# Altium footprint library OSSI.PCBLIB: 194 footprints (part 10 of 13)
Each footprint in its own frame and in the unit in brackets; x right, y up, seen from the top. Pads: shape width x height; smd on the part's side, far side on the other; paste and mask are expansions set on the pad; w line width, h text height; cw(c..) or ccw(c..) is an arc to the next point about the centre after c.
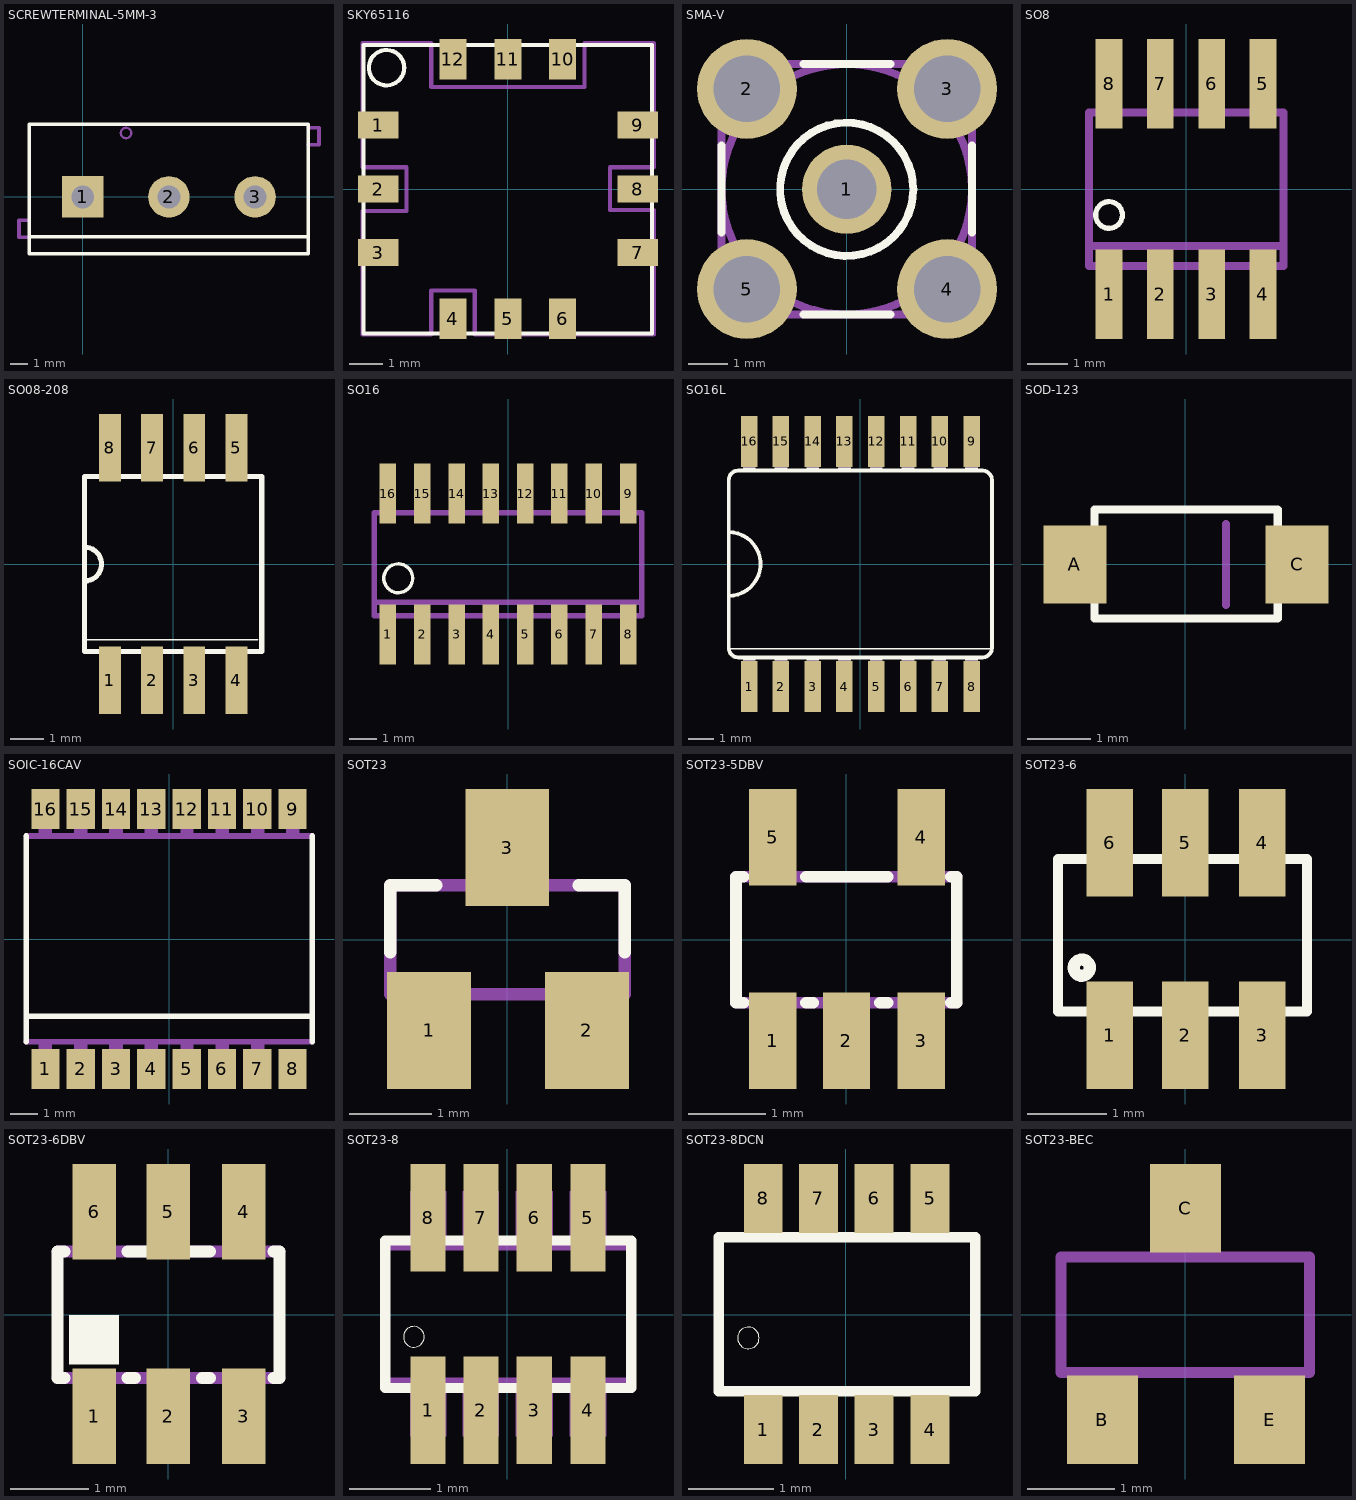
[diagram p9: the footprints below, top view; thin cyan lines are the x and y axes]

## SCREWTERMINAL-5MM-3 [mil]
pads (3):
  rect 95x95 hole 52: 1(0,0)
  round 95 hole 52: 2(197,0) 3(394,0)
Top Overlay:
  lines w8: -122.05,-90.55 -122.05,-129.92 516,-129.92 516,-90.55 ; -122.05,-90.55 -122.05,166 516,166 516,-90.55 ; -122.05,-90.55 516,-90.55
Mechanical 2:
  text ">NAME" at -50,100 h24.8
Mechanical 4:
  text ">VALUE" at -50,50 h24.8
Mechanical 16:
  circle w5: c99,146 r12
  lines w8: -122.05,-92.52 -145.67,-92.52 -145.67,-53.15 -122.05,-53.15 ; 516,119 540,119 540,158 516,158

## SKY65116 [mil]
pads (12):
  rect 48x32 smd: 1(-153.54,76) 2(-153.54,0) 3(-153.54,-75.2) 7(154,-75.2) 8(154,0) 9(154,76)
  rect 32x48 smd: 4(-64.96,-153.54) 5(0,-153.54) 6(65,-153.54) 10(65,154) 11(0,154) 12(-64.96,154)
Top Overlay:
  circle w5: c-143.72,144 r21
  lines w5: -170.96,-170.96 171,-170.96 171,171 -170.96,171 -170.96,-170.96
Mechanical 2:
  text ">NAME" at -150,250 h77.5
Mechanical 4:
  text ">VALUE" at -150,200 h77.5
Mechanical 16:
  lines w5: -172.24,-172.24 -90.75,-172.24 -90.75,-120.08 -39.17,-120.08 -39.17,-172.24 173,-172.24 173,-24.61 121,-24.61 121,26 173,26 173,173 91,173 91,121 -90.75,121 -90.75,173 -172.24,173 -172.24,26 -120.08,26 -120.08,-25.79 -172.24,-25.79 -172.24,-172.24

## SMA-V [mil]
pads (5):
  round 90 hole 60: 1(0,0)
  round 100.5 hole 67: 2(-100.39,101) 3(101,101) 4(101,-100.39) 5(-100.39,-100.39)
Top Overlay:
  circle w8: c0,0 r67
  lines w8: -125.98,-43.31 -125.98,44 ; -43.31,-125.98 44,-125.98 ; -43.31,126 44,126 ; 126,-43.31 126,44
Mechanical 2:
  text ">NAME" at -100,175 h77.5
Mechanical 4:
  text ">VALUE" at -125,-225 h77.5
Mechanical 16:
  circle w8: c0,0 r126
  lines w8: -125.98,-125.98 126,-125.98 126,126 -125.98,126 -125.98,-125.98

## SO8 [mil]
pads (8):
  rect 26x87 smd: 1(-75,-102.36) 2(-25,-102.36) 3(25,-102.36) 4(75,-102.36) 5(75,103) 6(25,103) 7(-25,103) 8(-75,103)
Top Overlay:
  circle w5: c-75,-25 r13
Mechanical 2:
  text ">NAME" at -125,-75 h77.5
Mechanical 4:
  text ">VALUE" at 163,-87.5 h77.5
Mechanical 16:
  rectangle: -84.65,-122.05 -65.35,-78.74
  rectangle: -34.65,-122.05 -15.35,-78.74
  rectangle: 16,-122.05 35,-78.74
  rectangle: 66,-122.05 85,-78.74
  rectangle: 66,79 85,123
  rectangle: 16,79 35,123
  rectangle: -34.65,79 -15.35,123
  rectangle: -84.65,79 -65.35,123
  lines w8: -94.49,-55.12 -94.49,-74.8 95,-74.8 95,-55.12 ; -94.49,-55.12 -94.49,75 95,75 95,-55.12 ; -94.49,-55.12 95,-55.12

## SO08-208 [mil]
pads (8):
  rect 26x80 smd: 1(-75,-137.73) 2(-25,-137.73) 3(25,-137.73) 4(75,-137.73) 5(75,138) 6(25,138) 7(-25,138) 8(-75,138)
Top Overlay:
  lines w2: -104.92,-89.57 100,-89.57
  lines w6: -104.92,-20 -104.92,20 ; -104.92,-20 -104.92,-103.57 105,-103.57 105,104 -104.92,104 -104.92,20 ; -104.92,-20 ccw(c-104.92,0) -104.92,20
Mechanical 2:
  text ">NAME" at -125,-100 h77.5
Mechanical 4:
  text ">VALUE" at 175,-100 h77.5
Mechanical 16:
  rectangle: 65,104 85,159
  rectangle: -85,-158.46 -65,-103.57
  rectangle: -35,-158.46 -15,-103.57
  rectangle: 15,-158.46 35,-102.57
  rectangle: 65,-158.46 85,-103.57
  rectangle: 15,104 35,159
  rectangle: -35,104 -15,159
  rectangle: -85,104 -65,159

## SO16 [mil]
pads (16):
  rect 24x87 smd: 1(-175,-102.36) 2(-125,-102.36) 3(-75,-102.36) 4(-25,-102.36) 5(25,-102.36) 6(75,-102.36) 7(125,-102.36) 8(175,-102.36) 9(175,103) 10(125,103) 11(75,103) 12(25,103) 13(-25,103) 14(-75,103) 15(-125,103) 16(-175,103)
Top Overlay:
  circle w5: c-159.84,-20.47 r21
Mechanical 2:
  text ">NAME" at -200,-75 h77.5
Mechanical 4:
  text ">VALUE" at 250,-100 h77.5
Mechanical 16:
  rectangle: -184.65,-122.05 -165.35,-78.74
  rectangle: -134.65,-122.05 -115.35,-78.74
  rectangle: -84.65,-122.05 -65.35,-78.74
  rectangle: -34.65,-122.05 -15.35,-78.74
  rectangle: 66,79 85,123
  rectangle: 16,79 35,123
  rectangle: -34.65,79 -15.35,123
  rectangle: -84.65,79 -65.35,123
  rectangle: 16,-122.05 35,-78.74
  rectangle: 66,-122.05 85,-78.74
  rectangle: 116,-122.05 135,-78.74
  rectangle: 166,-122.05 185,-78.74
  rectangle: 166,79 185,123
  rectangle: 116,79 135,123
  rectangle: -134.65,79 -115.35,123
  rectangle: -184.65,79 -165.35,123
  lines w8: -194.49,-55.12 -194.49,-74.8 195,-74.8 195,-55.12 ; -194.49,-55.12 -194.49,75 195,75 195,-55.12 ; -194.49,-55.12 195,-55.12

## SO16L [mil]
pads (16):
  rect 26x80 smd: 1(-175,-193) 2(-125,-193) 3(-75,-193) 4(-25,-193) 5(25,-193) 6(75,-193) 7(125,-193) 8(175,-193) 9(175,193) 10(125,193) 11(75,193) 12(25,193) 13(-25,193) 14(-75,193) 15(-125,193) 16(-175,193)
Top Overlay:
  rectangle: -185,-152 -165,-147
  rectangle: -135,-152 -115,-147
  rectangle: -85,-152 -65,-147
  rectangle: -35,-152 -15,-147
  rectangle: 15,-152 35,-147
  rectangle: 65,-152 85,-147
  rectangle: 115,-152 135,-147
  rectangle: 165,-152 185,-147
  rectangle: -185,147 -165,152
  rectangle: -135,147 -115,152
  rectangle: -85,147 -65,152
  rectangle: -35,147 -15,152
  rectangle: 15,147 35,152
  rectangle: 65,147 85,152
  rectangle: 115,147 135,152
  rectangle: 165,147 185,152
  lines w2: -205,-133 206,-133
  lines w6: -207,-50 -207,50 ; -207,-50 -207,-132 ccw(c-192,-132) -192,-147 192,-147 ccw(c192,-132) 207,-132 207,132 ccw(c192,132) 192,147 -192,147 ccw(c-192,132) -207,132 -207,50 ; -207,-50 ccw(c-207,0) -207,50
Mechanical 2:
  text ">NAME" at -220,-140 h77.5
Mechanical 4:
  text ">VALUE" at -140,-30 h77.5
Mechanical 16:
  rectangle: -185,-210 -165,-152
  rectangle: -135,-210 -115,-152
  rectangle: -85,-210 -65,-152
  rectangle: -35,-210 -15,-152
  rectangle: 15,-210 35,-152
  rectangle: 65,-210 85,-152
  rectangle: 115,-210 135,-152
  rectangle: 165,-210 185,-152
  rectangle: -185,152 -165,210
  rectangle: -135,152 -115,210
  rectangle: -85,152 -65,210
  rectangle: -35,152 -15,210
  rectangle: 15,152 35,210
  rectangle: 65,152 85,210
  rectangle: 115,152 135,210
  rectangle: 165,152 185,210

## SOD-123 [mil]
pads (2):
  rect 39x48 smd: A(-68.31,0) C(69,0)
Top Overlay:
  lines w5: -56.1,-33.46 57,-33.46 57,34 -56.1,34 -56.1,-33.46
Mechanical 2:
  text ">NAME" at -125,50 h77.5
Mechanical 4:
  lines w5: 25,-25 25,25
  text ">VALUE" at -125,-100 h77.5

## SOIC-16CAV [mil]
pads (16):
  rect 40x57 smd: 1(-175,-183.86) 2(-125,-183.86) 3(-75,-183.86) 4(-25,-183.86) 5(25,-183.86) 6(75,-183.86) 7(125,-183.86) 8(175,-183.86) 9(175,184) 10(125,184) 11(75,184) 12(25,184) 13(-25,184) 14(-75,184) 15(-125,184) 16(-175,184)
Top Overlay:
  lines w8: -202.36,-145.67 -202.36,-109.25 ; -202.36,146 -202.36,-109.25 ; 203,-145.67 203,-109.25 ; 203,146 203,-109.25 ; -202.36,-109.25 203,-109.25
Mechanical 2:
  text ">NAME" at -225,-125 h77.5
Mechanical 4:
  text ">VALUE" at -175,-25 h77.5
Mechanical 16:
  rectangle: -184.65,-207.68 -165.35,-149.61
  rectangle: -134.65,-207.68 -115.35,-149.61
  rectangle: -84.65,-207.68 -65.35,-149.61
  rectangle: -34.65,-207.68 -15.35,-149.61
  rectangle: 66,150 85,209
  rectangle: 16,150 35,209
  rectangle: -34.65,150 -15.35,209
  rectangle: -84.65,150 -65.35,209
  rectangle: 16,-207.68 35,-149.61
  rectangle: 66,-207.68 85,-149.61
  rectangle: 116,-207.68 135,-149.61
  rectangle: 166,-207.68 185,-164.37
  rectangle: 166,150 185,209
  rectangle: 116,150 135,209
  rectangle: -134.65,150 -115.35,209
  rectangle: -184.65,150 -165.35,209
  lines w8: -202.36,-145.67 203,-145.67 ; -202.36,146 203,146

## SOT23 [mil]
pads (3):
  rect 40x56 smd: 1(-37.4,-43.31) 2(38,-43.31) 3(0,44)
Top Overlay:
  lines w6: -56,-6 -56,26 -34,26 ; 34,26 56,26 56,-6
Mechanical 2:
  text ">NAME" at -75,75 h77.5
Mechanical 4:
  text ">VALUE" at -75,-125 h77.5
Mechanical 16:
  rectangle: -9,28 9,51
  rectangle: 28,-51 46,-28
  rectangle: -46,-51 -28,-28
  lines w6: -56,-26 56,-26 56,26 -56,26 -56,-26

## SOT23-5DBV [mil]
pads (5):
  rect 24x49 smd: 1(-37.4,-51.18) 2(0,-51.18) 3(38,-51.18) 4(38,52) 5(-37.4,52)
Top Overlay:
  lines w6: -52.28,-31.89 -55.98,-31.89 -55.98,32 -52.28,32 ; -20.55,-31.89 -16.85,-31.89 ; -20.55,32 21,32 ; 17,-31.89 21,-31.89 ; 53,-31.89 56,-31.89 56,32 53,32
Mechanical 2:
  text ">NAME" at -75,75 h77.5
Mechanical 4:
  text ">VALUE" at -75,-135 h77.5
Mechanical 16:
  rectangle: -47.24,-59.06 -27.56,-33.46
  rectangle: -9.84,-59.06 10,-33.46
  rectangle: 28,-59.06 48,-33.46
  rectangle: 28,34 48,60
  rectangle: -47.24,34 -27.56,60
  lines w6: -55.98,-31.89 56,-31.89 ; -55.98,32 56,32

## SOT23-6 [mil]
pads (6):
  rect 23x53 smd: 1(-37.4,-47.24) 2(0,-47.24) 3(38,-47.24) 4(38,48) 5(0,48) 6(-37.4,48)
Top Overlay:
  circle w6: c-51.18,-13.78 r4
  lines w5: -62.99,-35.43 60,-35.43 60,40 -62.99,40 -62.99,-35.43
Mechanical 2:
  text ">NAME" at -75,75 h77.5
Mechanical 4:
  text ">VALUE" at -75,-125 h77.5

## SOT23-6DBV [mil]
pads (6):
  rect 22x48 smd: 1(-37.4,-51.18) 2(0,-51.18) 3(38,-51.18) 4(38,52) 5(0,52) 6(-37.4,52)
Top Overlay:
  rectangle: -50,-25 -25,0
  lines w6: -52.28,-31.89 -55.98,-31.89 -55.98,32 -52.28,32 ; -20.55,-31.89 -16.85,-31.89 ; -20.55,32 21,32 ; 17,-31.89 21,-31.89 ; 53,-31.89 56,-31.89 56,32 53,32
Mechanical 2:
  text ">NAME" at -75,75 h77.5
Mechanical 4:
  text ">VALUE" at -75,-135 h77.5
Mechanical 16:
  rectangle: -47.24,-59.06 -27.56,-33.46
  rectangle: -9.84,-59.06 10,-33.46
  rectangle: 28,-59.06 48,-33.46
  rectangle: 28,34 48,60
  rectangle: -47.24,34 -27.56,60
  rectangle: -9.84,34 10,60
  lines w6: -55.98,-31.89 56,-31.89 ; -55.98,32 56,32

## SOT23-8 [mil]
pads (8):
  rect 17x52 smd: 1(-38.39,-46.26) 2(-12.8,-46.26) 3(13,-46.26) 4(39,-46.26) 5(39,47) 6(13,47) 7(-12.8,47) 8(-38.39,47)
Top Overlay:
  circle w0: c-45.28,-10.67 r5
  lines w5: -59.06,-35.43 60,-35.43 60,36 -59.06,36 -59.06,-35.43
Mechanical 2:
  text ">NAME" at -75,-75 h77.5
Mechanical 4:
  text ">VALUE" at 125,-75 h77.5
Mechanical 16:
  rectangle: -47.24,-59.06 -29.53,-33.46
  rectangle: -21.65,-59.06 -3.94,-33.46
  rectangle: 4,-59.06 22,-33.46
  rectangle: 30,-59.06 48,-33.46
  region: 48,60 30,60 30,34 48,34
  region: 22,60 4,60 4,34 22,34
  region: -3.94,60 -21.65,60 -21.65,34 -3.94,34
  region: -29.53,60 -47.24,60 -47.24,34 -29.53,34
  lines w4: -57.09,-32.48 58,-32.48 ; -57.09,33 58,33

## SOT23-8DCN [mil]
pads (8):
  rect 18x32 smd: 1(-38.39,-53.15) 2(-12.8,-53.15) 3(13,-53.15) 4(39,-53.15) 5(39,54) 6(13,54) 7(-12.8,54) 8(-38.39,54)
Top Overlay:
  circle w0: c-45.28,-10.67 r5
  lines w5: -59.06,-35.43 60,-35.43 60,36 -59.06,36 -59.06,-35.43
Mechanical 2:
  text ">NAME" at -75,-75 h77.5
Mechanical 4:
  text ">VALUE" at 125,-75 h77.5

## SOT23-BEC [mil]
pads (3):
  rect 32x40 smd: B(-37.4,-47.24) C(0,48) E(38,-47.24)
Mechanical 2:
  text ">NAME" at -75,75 h77.5
Mechanical 4:
  text ">VALUE" at -75,-125 h77.5
Mechanical 16:
  rectangle: -9,28 9,51
  rectangle: 28,-51 46,-28
  rectangle: -46,-51 -28,-28
  lines w5: -56,-26 56,-26 56,26 -56,26 -56,-26